# Altium footprint library CustomComp.PcbLib: 12 footprints
Each footprint in its own frame and in the unit in brackets; x right, y up, seen from the top. Pads: shape width x height; smd on the part's side, far side on the other; paste and mask are expansions set on the pad; w line width, h text height; cw(c..) or ccw(c..) is an arc to the next point about the centre after c.
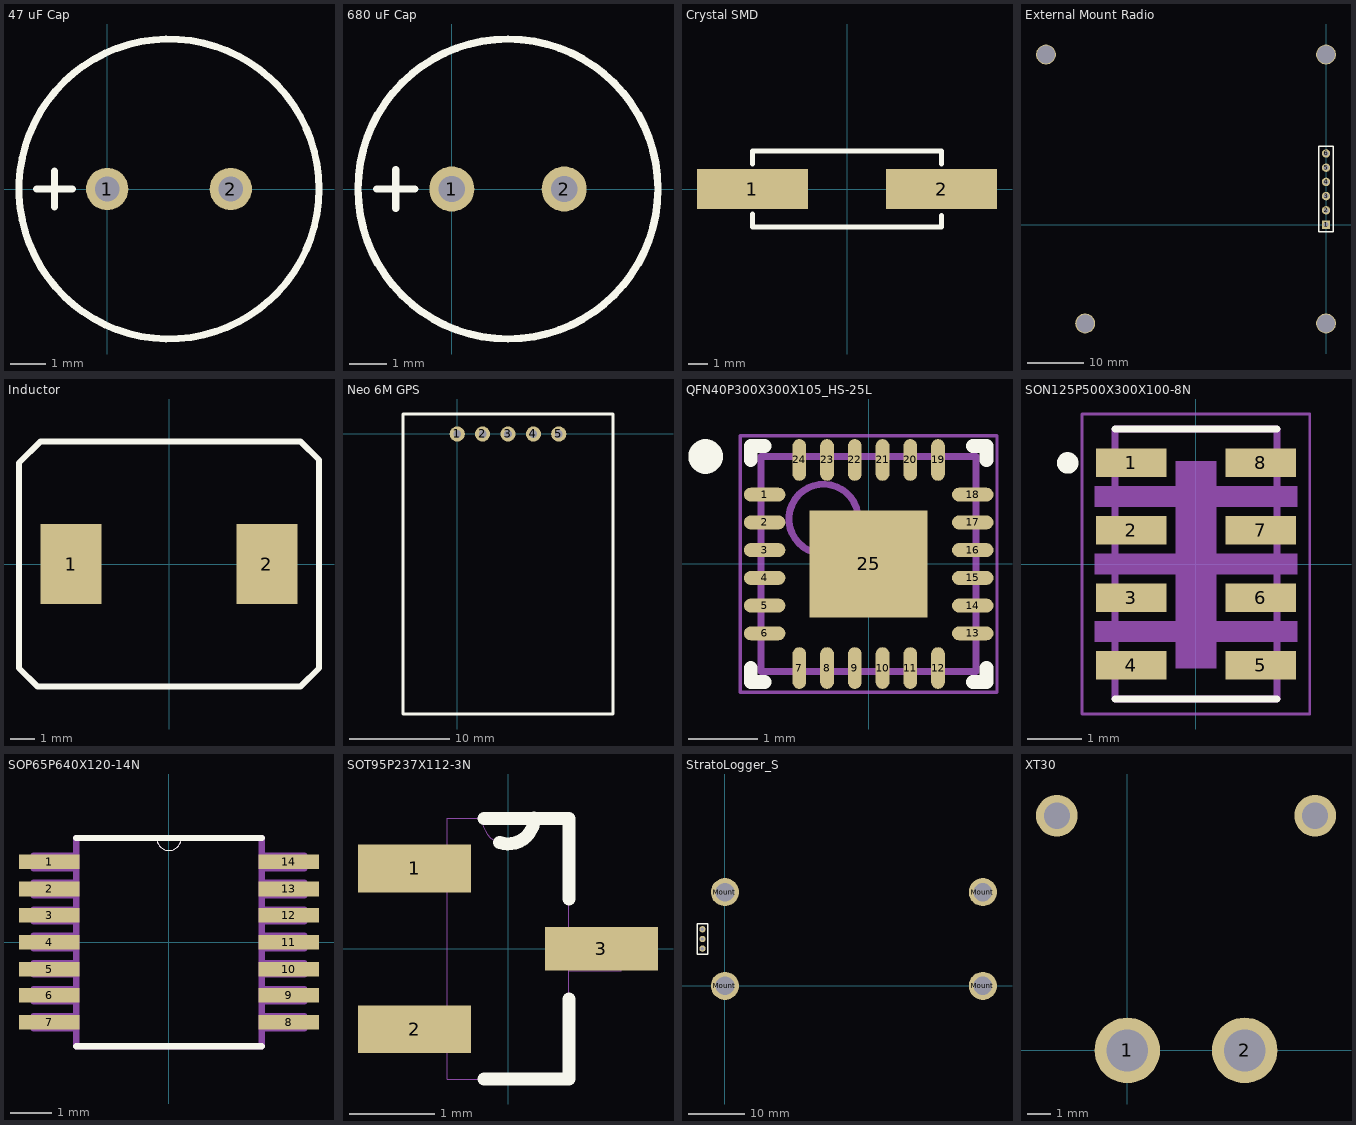
[diagram p0: the footprints below, top view; thin cyan lines are the x and y axes]

## 47 uF Cap [mm]
pads (2):
  round 1.2 hole 0.7: 1(0,0) 2(3.5,0)
Top Overlay:
  circle w0.2: c1.75,0 r4.25
  lines w0.2: -2.001,0 -0.985,0 ; -1.493,-0.508 -1.493,0.508

## 680 uF Cap [mm]
pads (2):
  round 1.2 hole 0.7: 1(0,0) 2(3,0)
Top Overlay:
  circle w0.2: c1.5,0 r4
  lines w0.2: -2.001,0 -0.985,0 ; -1.493,-0.508 -1.493,0.508

## Crystal SMD [mil]
pads (2):
  rect 220x80 smd: 1(-187.5,0) 2(187.5,0)
Top Overlay:
  lines w10: -187.5,-50 -187.5,-75 187.5,-75 187.5,-52.5 ; -187.5,50 -187.5,75 187.5,75 187.5,50

## External Mount Radio [mm]
pads (10):
  rect 1.5x1.5 hole 0.9: 1(0,0)
  round 1.5 hole 0.9: 2(0,2.54) 3(0,5.08) 4(0,7.62) 5(0,10.16) 6(0,12.7)
  round 3.556 hole 3.175: ""(-50,30.35) ""(-43,-17.65) ""(0,-17.65) ""(0,30.35)
Top Overlay:
  lines w0.254: -1.27,-1.27 -1.27,13.97 1.27,13.97 1.27,-1.27 -1.27,-1.27

## Inductor [mil]
pads (2):
  rect 100x130 smd: 1(-160,0) 2(160,0)
Top Overlay:
  lines w10: -245,-170 -245,165 -210,200 215,200 245,170 245,-170 215,-200 -215,-200 -245,-170

## Neo 6M GPS [mil]
pads (5):
  round 60 hole 30: 1(0,0) 2(100,0) 3(200,0) 4(300,0) 5(400,0)
Top Overlay:
  lines w10: -213.39,-1102.36 200,-1102.36 613.39,-1102.36 613.39,78.74 200,78.74 -213.39,78.74 -213.39,-1102.36

## QFN40P300X300X105_HS-25L [mm] "QFN, 24-Leads, Body 3.00x3.00mm, Pitch 0.40mm, Thermal Pad 1.70x1.54mm, IPC High Density"
height 1.05
pads (25):
  oval 0.6x0.2 smd: 1(-1.5,1) 2(-1.5,0.6) 3(-1.5,0.2) 4(-1.5,-0.2) 5(-1.5,-0.6) 6(-1.5,-1) 13(1.5,-1) 14(1.5,-0.6) 15(1.5,-0.2) 16(1.5,0.2) 17(1.5,0.6) 18(1.5,1)
  oval 0.2x0.6 smd: 7(-1,-1.5) 8(-0.6,-1.5) 9(-0.2,-1.5) 10(0.2,-1.5) 11(0.6,-1.5) 12(1,-1.5) 19(1,1.5) 20(0.6,1.5) 21(0.2,1.5) 22(-0.2,1.5) 23(-0.6,1.5) 24(-1,1.5)
  rect 1.7x1.54 smd: 25(0,0)
Top Overlay:
  circle w0.25: c-2.35,1.55 r0.125
  lines w0.2: -1.7,-1.5 -1.7,-1.7 -1.5,-1.7 ; -1.7,1.5 -1.7,1.7 -1.5,1.7 ; 1.5,-1.7 1.7,-1.7 1.7,-1.5 ; 1.5,1.7 1.7,1.7 1.7,1.5
Mechanical 13:
  circle w0.1: c-0.65,0.65 r0.5
  lines w0.1: -0.25,-0.25 0,0 ; 0,0.5 0,0 ; 0.5,0 0,0 ; -1.55,-1.55 1.55,-1.55 1.55,1.55 -1.55,1.55 -1.55,-1.55
  text "Z" at -0.675,-0.75 h0.4
  text "x" at 0.675,-0.15 h0.4
  text "Y" at -0.125,0.7 h0.4
Mechanical 15:
  lines w0.05: -1.85,-1.85 1.85,-1.85 1.85,1.85 -1.85,1.85 -1.85,-1.85
  lines w0.1: -0.5,0 0.5,0 ; 0,-0.5 0,0.5
3D body: height 1.05, standoff 0.05, extent -1.55,-1.55 1.55,1.55

## SON125P500X300X100-8N [mm]
pads (8):
  rect 1.31x0.53 smd: 1(-1.2,1.875) 2(-1.2,0.625) 3(-1.2,-0.625) 4(-1.2,-1.875) 5(1.2,-1.875) 6(1.2,-0.625) 7(1.2,0.625) 8(1.2,1.875)
Top Overlay:
  circle w0.2: c-2.377,1.873 r0.1
  lines w0.127: -1.5,-2.5 1.5,-2.5 ; -1.5,2.5 1.5,2.5
Mechanical 4:
  circle w0.2: c-0.877,1.873 r0.1
  circle w0.2: c-0.877,1.873 r0.1
  region: -1.875,1.438 1.875,1.438 1.875,1.063 -1.875,1.063
  region: -1.878,1.438 1.875,1.438 1.875,1.064 -1.878,1.064
  region: -1.876,1.438 1.875,1.438 1.875,1.063 -1.876,1.063
  region: -1.878,0.188 1.875,0.188 1.875,-0.188 -1.878,-0.188
  region: -1.878,0.188 1.875,0.188 1.875,-0.188 -1.878,-0.188
  region: -1.877,0.188 1.875,0.188 1.875,-0.188 -1.877,-0.188
  region: -1.878,-1.062 1.875,-1.062 1.875,-1.44 -1.878,-1.44
  region: -1.878,-1.062 1.875,-1.062 1.875,-1.44 -1.878,-1.44
  region: -1.877,-1.062 1.875,-1.062 1.875,-1.439 -1.877,-1.439
  region: -0.375,1.905 0.381,1.905 0.381,-1.935 -0.375,-1.935
  region: -0.375,1.905 0.381,1.905 0.381,-1.935 -0.375,-1.935
  region: -0.375,1.905 0.381,1.905 0.381,-1.935 -0.375,-1.935
  region: -1.875,1.438 1.875,1.438 1.875,1.063 -1.875,1.063
  region: -1.878,1.438 1.875,1.438 1.875,1.064 -1.878,1.064
  region: -1.876,1.438 1.875,1.438 1.875,1.063 -1.876,1.063
  region: -1.878,0.188 1.875,0.188 1.875,-0.188 -1.878,-0.188
  region: -1.878,0.188 1.875,0.188 1.875,-0.188 -1.878,-0.188
  region: -1.877,0.188 1.875,0.188 1.875,-0.188 -1.877,-0.188
  region: -1.878,-1.062 1.875,-1.062 1.875,-1.44 -1.878,-1.44
  region: -1.878,-1.062 1.875,-1.062 1.875,-1.44 -1.878,-1.44
  region: -1.877,-1.062 1.875,-1.062 1.875,-1.439 -1.877,-1.439
  region: -0.375,1.905 0.381,1.905 0.381,-1.935 -0.375,-1.935
  region: -0.375,1.905 0.381,1.905 0.381,-1.935 -0.375,-1.935
  region: -0.375,1.905 0.381,1.905 0.381,-1.935 -0.375,-1.935
  lines w0.127: -1.5,-2.5 -1.5,2.5 ; -1.5,-2.5 1.5,-2.5 ; -1.5,-2.5 -1.5,2.5 ; -1.5,-2.5 1.5,-2.5 ; -1.5,2.5 1.5,2.5 ; -1.5,2.5 1.5,2.5 ; 1.5,-2.5 1.5,2.5 ; 1.5,-2.5 1.5,2.5
Mechanical 16:
  lines w0.05: -2.11,-2.78 -2.11,2.78 2.11,2.78 2.11,-2.78 -2.11,-2.78

## SOP65P640X120-14N [mil]
pads (14):
  rect 58x14 smd: 1(-115,77) 2(-115,51) 3(-115,26) 4(-115,0) 5(-115,-26) 6(-115,-51) 7(-115,-77) 8(115,-77) 9(115,-51) 10(115,-26) 11(115,0) 12(115,26) 13(115,51) 14(115,77)
Top Overlay:
  lines w0: -12,100 ccw(c0,100) 12,100
  lines w6: -89,-100 89,-100 ; -89,100 -12,100 12,100 89,100
Mechanical 4:
  lines w0: -12,100 ccw(c0,100) 12,100 cw(c0,100) -12,100
  lines w6: -130,-83 -130,-71 ; -130,-83 -89,-83 ; -130,-83 -130,-71 ; -130,-83 -89,-83 ; -130,-71 -89,-71 ; -130,-71 -89,-71 ; -130,-57 -130,-45 ; -130,-57 -89,-57 ; -130,-57 -130,-45 ; -130,-57 -89,-57 ; -130,-45 -89,-45 ; -130,-45 -89,-45 ; -130,-31 -130,-20 ; -130,-31 -89,-31 ; -130,-31 -130,-20 ; -130,-31 -89,-31 ; -130,-20 -89,-20 ; -130,-20 -89,-20 ; -130,-6 -130,6 ; -130,-6 -89,-6 ; -130,-6 -130,6 ; -130,-6 -89,-6 ; -130,6 -89,6 ; -130,6 -89,6 ; -130,20 -130,31 ; -130,20 -89,20 ; -130,20 -130,31 ; -130,20 -89,20 ; -130,31 -89,31 ; -130,31 -89,31 ; -130,45 -130,57 ; -130,45 -89,45 ; -130,45 -130,57 ; -130,45 -89,45 ; -130,57 -89,57 ; -130,57 -89,57 ; -130,71 -130,83 ; -130,71 -89,71 ; -130,71 -130,83 ; -130,71 -89,71 ; -130,83 -89,83 ; -130,83 -89,83 ; -89,-100 89,-100 ; -89,-100 -89,100 ; -89,-100 89,-100 ; -89,-100 -89,100 ; -89,-83 -89,-71 ; -89,-83 -89,-71 ; -89,-57 -89,-45 ; -89,-57 -89,-45 ; -89,-31 -89,-20 ; -89,-31 -89,-20 ; -89,-6 -89,6 ; -89,-6 -89,6 ; -89,20 -89,31 ; -89,20 -89,31 ; -89,45 -89,57 ; -89,45 -89,57 ; -89,71 -89,83 ; -89,71 -89,83 ; -89,100 -12,100 ; -89,100 -12,100 ; -12,100 12,100 ; -12,100 12,100 ; 12,100 89,100 ; 12,100 89,100 ; 89,-100 89,100 ; 89,-100 89,100 ; 89,-83 89,-71 ; 89,-83 130,-83 ; 89,-83 89,-71 ; 89,-83 130,-83 ; 89,-71 130,-71 ; 89,-71 130,-71 ; 89,-57 89,-45 ; 89,-57 130,-57 ; 89,-57 89,-45 ; 89,-57 130,-57 ; 89,-45 130,-45 ; 89,-45 130,-45 ; 89,-31 89,-20 ; 89,-31 130,-31 ; 89,-31 89,-20 ; 89,-31 130,-31 ; 89,-20 130,-20 ; 89,-20 130,-20 ; 89,-6 89,6 ; 89,-6 130,-6 ; 89,-6 89,6 ; 89,-6 130,-6 ; 89,6 130,6 ; 89,6 130,6 ; 89,20 89,31 ; 89,20 130,20 ; 89,20 89,31 ; 89,20 130,20 ; 89,31 130,31 ; 89,31 130,31 ; 89,45 89,57 ; 89,45 130,45 ; 89,45 89,57 ; 89,45 130,45 ; 89,57 130,57 ; 89,57 130,57 ; 89,71 89,83 ; 89,71 130,71 ; 89,71 89,83 ; 89,71 130,71 ; 89,83 130,83 ; 89,83 130,83 ; 130,-83 130,-71 ; 130,-83 130,-71 ; 130,-57 130,-45 ; 130,-57 130,-45 ; 130,-31 130,-20 ; 130,-31 130,-20 ; 130,-6 130,6 ; 130,-6 130,6 ; 130,20 130,31 ; 130,20 130,31 ; 130,45 130,57 ; 130,45 130,57 ; 130,71 130,83 ; 130,71 130,83

## SOT95P237X112-3N [mil]
pads (3):
  rect 52x22 smd: 1(-43,37) 2(-43,-37)
  rect 52x20 smd: 3(43,0)
Top Overlay:
  lines w6: -11,-60 28,-60 28,-23 ; -11,60 12,60 28,60 28,23 ; -3.9,48.96 ccw(c0.15,60.1) 12,60.1
Mechanical 4:
  lines w0: -52,-47 -28,-47 ; -52,-47 -52,-28 ; -52,-47 -28,-47 ; -52,-47 -52,-28 ; -52,-28 -28,-28 ; -52,-28 -28,-28 ; -52,28 -28,28 ; -52,28 -52,47 ; -52,28 -28,28 ; -52,28 -52,47 ; -52,47 -28,47 ; -52,47 -28,47 ; -28,-60 -28,-47 ; -28,-60 28,-60 ; -28,-60 -28,-47 ; -28,-60 28,-60 ; -28,-47 -28,-28 ; -28,-47 -28,-28 ; -28,-28 -28,28 ; -28,-28 -28,28 ; -28,28 -28,47 ; -28,28 -28,47 ; -28,47 -28,60 ; -28,47 -28,60 ; -28,60 -12,60 ; -28,60 -12,60 ; -12,60 ccw(c0,60) 12,60 ; -12,60 ccw(c0,60) 12,60 ; -12,60 12,60 ; -12,60 12,60 ; 12,60 28,60 ; 12,60 28,60 ; 28,-60 28,-10 ; 28,-60 28,-10 ; 28,-10 52,-10 ; 28,-10 28,10 ; 28,-10 52,-10 ; 28,-10 28,10 ; 28,10 52,10 ; 28,10 28,60 ; 28,10 52,10 ; 28,10 28,60 ; 52,-10 52,10 ; 52,-10 52,10

## StratoLogger_S [mm] "Flight computer mounted on M3 standoffs"
pads (7):
  round 1.118 hole 0.61: 1(-3.987,6.604) 2(-3.987,8.305) 3(-3.987,10.033)
  round 5 / inner round 1.524 / far side round 1.524 hole 3.3: Mount(0,0) Mount(0,16.61) Mount(45.67,16.61) Mount(45.67,0)
Top Overlay:
  lines w0.254: -4.953,5.588 -4.953,11.049 -3.987,11.049 -3.048,11.049 -3.048,5.588 -3.175,5.588 -4.953,5.588

## XT30 [mil]
pads (4):
  round 110 hole 70: 1(0,0) 2(196.85,0)
  round 70 hole 44: ""(-118.11,393.7) ""(314.96,393.7)